# Altium footprint library Connector-DSub.PcbLib: 4 footprints
Each footprint in its own frame and in the unit in brackets; x right, y up, seen from the top. Pads: shape width x height; smd on the part's side, far side on the other; paste and mask are expansions set on the pad; w line width, h text height; cw(c..) or ccw(c..) is an arc to the next point about the centre after c.
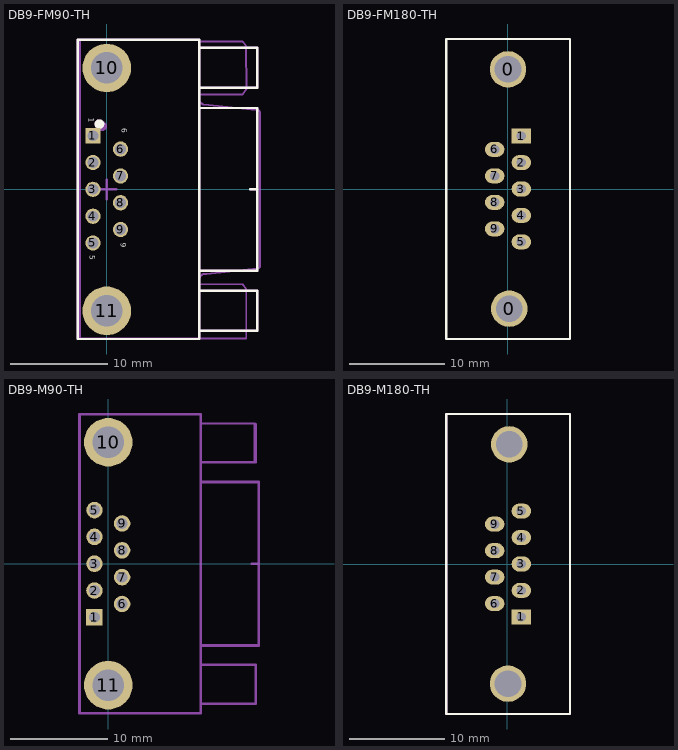
[diagram p0: the footprints below, top view; thin cyan lines are the x and y axes]

## DB9-FM90-TH [mil] "D-DMR009PF-D002"
pads (11):
  rect 62x62 hole 43.31: 1(-55.91,217.31)
  round 62 hole 43.31: 2(-55.91,108.66) 3(-55.91,-0.01) 4(-55.91,-108.67) 5(-55.91,-217.32) 6(55.91,162.99) 7(55.91,54.33) 8(55.91,-54.34) 9(55.91,-163)
  round 196.85 hole 127.95: 10(-0.01,492.12) 11(-0.01,-492.12)
Top Overlay:
  circle w19.68: c-29.93,264.18 r9.84
  lines w10: 374.01,-573.62 610.24,-573.62 ; 374.01,-410.63 610.24,-410.63 610.24,-572.44 ; 374.01,-329.92 610.24,-329.92 610.24,329.52 374.01,329.52 ; 374.01,410.63 610.24,410.63 ; 374,573.61 610.21,573.61 610.21,411.81 ; 581.89,-0.2 609.45,-0.2 ; -118.11,-606.3 -118.11,606.3 374.01,606.3 374.01,-606.3 -118.11,-606.3
  text "6" at 60.02,248.03 h22.88
  text "9" at 56.09,-216.53 h22.88
  text "5" at -69,-267.69 h22.88
  text "1" at -73,289.31 h22.88
Top Component Outline:
  drawing of 45 lines, arcs and shapes, not listed
Top Component Center:
  circle w19.68: c-18.89,255.91 r9.84
  lines w10: -39.37,0 39.37,0 ; 0,-39.37 0,39.37
Top Value:
  text "'.Comment'" at 18.95,-212.6 h100
Top Designator:
  text "'.Designator'" at 14.03,-271.65 h100
Bottom Courtyard:
  drawing of 45 lines, arcs and shapes, not listed
Top Assembly (Mech20):
  circle w19.68: c-29.93,264.18 r9.84
  lines w10: 374.01,-573.62 610.24,-573.62 ; 374.01,-410.63 610.24,-410.63 610.24,-572.44 ; 374.01,-329.92 610.24,-329.92 610.24,329.52 374.01,329.52 ; 374.01,410.63 610.24,410.63 ; 374,573.61 610.21,573.61 610.21,411.81 ; 581.89,-0.2 609.45,-0.2 ; -118.11,-606.3 -118.11,606.3 374.01,606.3 374.01,-606.3 -118.11,-606.3
  text "6" at 60.02,248.03 h22.88
  text "9" at 56.09,-216.53 h22.88
  text "5" at -69,-267.69 h22.88
  text "1" at -73,289.31 h22.88
3D body "D-DMR009PF-D002.step": height 498.03, standoff -124.48, extent -113.69,-607.28 615.05,609.25

## DB9-FM180-TH [mil] "D-DMS009PF-F000"
pads (11):
  round 150 hole 110: 0(0,493) 0(5,-493)
  rect 80x62 hole 38: 1(55,218)
  oval 80x62 hole 38: 2(55,109) 3(55,0) 4(55,-109) 5(55,-218) 6(-55,163) 7(-55,54) 8(-55,-55) 9(-55,-164)
Top Overlay:
  lines w8: -255,-618 255,-618 255,618
  lines w10: -255,-618 -255,618 255,618
Top Value:
  text "'.Comment'" at 21.98,-206.58 h100
Top Designator:
  text "'.Designator'" at 17.06,-265.64 h100
3D body "插件-180 母D-DMS009PF-F000.step": height 472.44, standoff -137.8, extent -246.06,-606.3 246.06,606.3

## DB9-M90-TH [mm] "D-DMR009PM-D002"
pads (11):
  rect 1.7x1.7 hole 1.1: 1(-1.42,-5.52)
  round 1.7 hole 1.1: 2(-1.42,-2.76) 3(-1.42,0) 4(-1.42,2.76) 5(-1.42,5.52) 6(1.42,-4.14) 7(1.42,-1.38) 8(1.42,1.38) 9(1.42,4.14)
  round 5 hole 3.25: 10(0,12.5) 11(0,-12.5)
Top Component Outline:
  drawing of 29 lines, arcs and shapes, not listed
Top Value:
  text "'.Comment'" at 0.481,-5.425 h2.54
Top Designator:
  text "'.Designator'" at 0.356,-6.925 h2.54
Top Assembly (Mech20):
  lines w0.254: 9.5,-14.4 15.2,-14.4 15.2,-10.4 9.5,-10.4 ; 9.5,-8.38 15.5,-8.38 15.5,8.37 9.5,8.37 ; 9.5,10.43 15.058,10.43 ; 9.5,14.57 9.5,14.428 15.076,14.428 15.076,10.46 ; 14.78,-0.005 15.48,-0.005 ; -3,-15.4 9.5,-15.4 9.5,14.621 9.5,15.4 -3,15.4 -3,-15.4
  text "5" at -1.854,7.349 h0.58
  text "1" at -1.753,-6.799 h0.58
  text "6" at 1.295,-6.698 h0.58
  text "9" at 1.143,7.374 h0.58
3D body "D-DMR009PM-D002.step": height 12.65, standoff -3.16, extent -2.994,-15.387 15.507,15.513

## DB9-M180-TH [mil] "D-DMS009PM-F000"
pads (11):
  rect 80x62 hole 38: 1(59.06,-216.54)
  oval 80x62 hole 38: 2(59.06,-107.54) 3(59.06,1.46) 4(59.06,110.46) 5(59.06,219.46) 6(-50.94,-161.54) 7(-50.94,-52.54) 8(-50.94,56.46) 9(-50.94,165.46)
  round 150 hole 110: ""(4.06,-491.54) ""(9.06,494.46)
Top Overlay:
  lines w8: -250.94,619.46 259.06,619.46 259.06,-616.54
  lines w10: -250.94,619.46 -250.94,-616.54 259.06,-616.54
Top Component Outline:
  lines w8: -250.94,619.46 259.06,619.46 259.06,-616.54
  lines w10: -250.94,619.46 -250.94,-616.54 259.06,-616.54
Top Value:
  text "'.Comment'" at 18.95,-213.58 h100
Top Designator:
  text "'.Designator'" at 14.03,-272.64 h100
Top Assembly (Mech20):
  lines w8: -250.94,619.46 259.06,619.46 259.06,-616.54
  lines w10: -250.94,619.46 -250.94,-616.54 259.06,-616.54
  text "5" at -73,289.31 h22.88
  text "1" at -69,-267.69 h22.88
  text "6" at 51,-263.69 h22.88
  text "9" at 45,290.31 h22.88
3D body "插件-180 公 D-DMS009PM-F000.step": height 458.66, standoff -204.72, extent -246.06,-606.5 246.06,606.5